# EAGLE library part TE_1-84952 (library m_connector)
TE Connectivity 1mm FPC Connector Horizontal, Surface Mount, Bottom Contact Added 6/22/2012, drwing number 84952
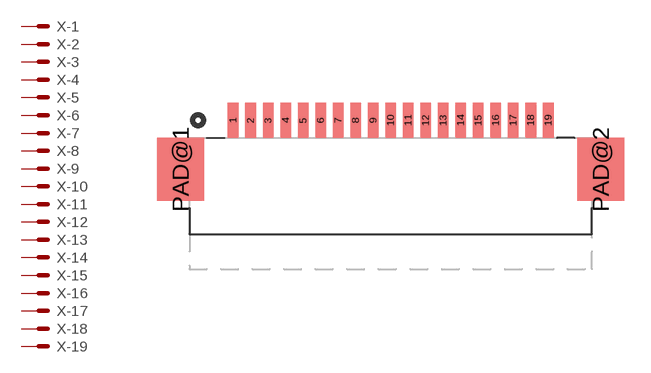
[diagram p6: symbol with the pads of TE_1-84952-9; footprint TE_1-84952-9]

Designator prefix X; gates -1=M -2=M -3=M -4=M -5=M -6=M -7=M -8=M -9=M -10=M -11=M -12=M -13=M -14=M -15=M -16=M -17=M -18=M -19=M

## TE_1-84952-9 (MANUF: TE; PARTNUM: 1-84952-9)  [TE_1-84952-9]
1  -1:S  pas
2  -2:S  pas
3  -3:S  pas
4  -4:S  pas
5  -5:S  pas
6  -6:S  pas
7  -7:S  pas
8  -8:S  pas
9  -9:S  pas
10  -10:S  pas
11  -11:S  pas
12  -12:S  pas
13  -13:S  pas
14  -14:S  pas
15  -15:S  pas
16  -16:S  pas
17  -17:S  pas
18  -18:S  pas
19  -19:S  pas

## Footprint TE_1-84952-9 (pad centres in mm)
TE Connectivity 1mm FPC Connector Horizontal, Surface Mount, Bottom Contact Added 6/22/2012, drwing number 84952
smd 0.61 x 2: 1 -9,0; 2 -8,0; 3 -7,0; 4 -6,0; 5 -5,0; 6 -4,0; 7 -3,0; 8 -2,0; 9 -1,0; 10 0,0; 11 1,0; 12 2,0; 13 3,0; 14 4,0; 15 5,0; 16 6,0; 17 7,0; 18 8,0; 19 9,0
smd 2.68 x 3.6: PAD@1 -12,-2.8; PAD@2 12,-2.8